# Altium schematic symbol library Jumper-2pin.SchLib: 1 symbol
Pins are listed as number, name and electrical type; pins without a type are passive.

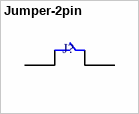
[diagram p0: symbol Jumper-2pin]

## Jumper-2pin
designator J?
pins: 1, 2